# Altium footprint library B65814C1512T001.PcbLib: 1 footprints
Each footprint in its own frame and in the unit in brackets; x right, y up, seen from the top. Pads: shape width x height; smd on the part's side, far side on the other; paste and mask are expansions set on the pad; w line width, h text height; cw(c..) or ccw(c..) is an arc to the next point about the centre after c.
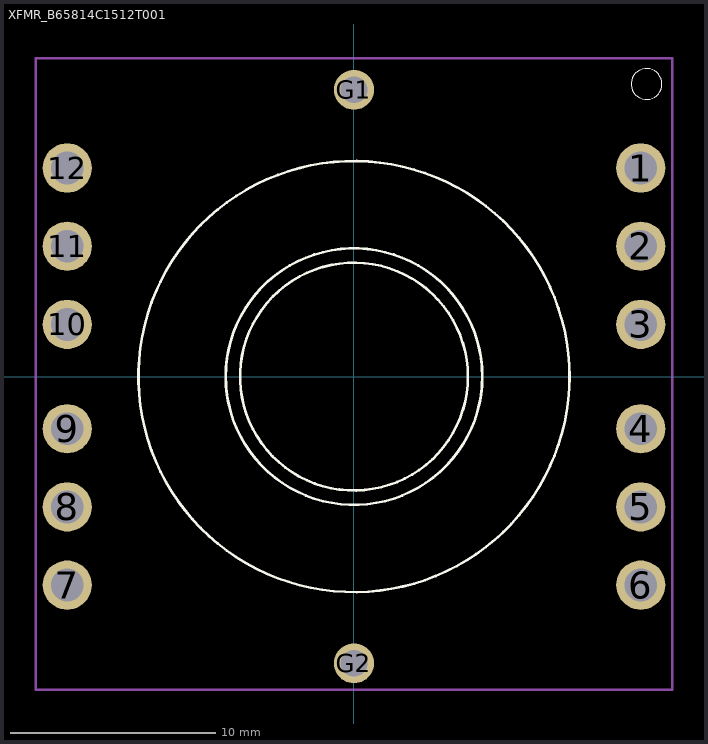
[diagram p0: the footprint, top view; thin cyan lines are the x and y axes]

## XFMR_B65814C1512T001 [mm]
pads (14):
  round 2.4 hole 1.6: 1(13.97,10.16) 2(13.97,6.35) 3(13.97,2.54) 4(13.97,-2.54) 5(13.97,-6.35) 6(13.97,-10.16) 7(-13.97,-10.16) 8(-13.97,-6.35) 9(-13.97,-2.54) 10(-13.97,2.54) 11(-13.97,6.35) 12(-13.97,10.16)
  round 1.95 hole 1.3: G1(0,13.97) G2(0,-13.97)
Top Overlay:
  circle w0.127: c0,0 r6.25
  circle w0.127: c0,0 r5.55
  circle w0.127: c0,0 r10.5
  circle w0: c14.25,14.25 r0.75
Mechanical 15:
  lines w0.127: -15.5,-15.25 15.5,-15.25 15.5,15.5 -15.5,15.5 -15.5,-15.25